# Altium schematic symbol library WaterNet23BotPCB.SCHLIB: 21 symbols
Pins are listed as number, name and electrical type; pins without a type are passive.

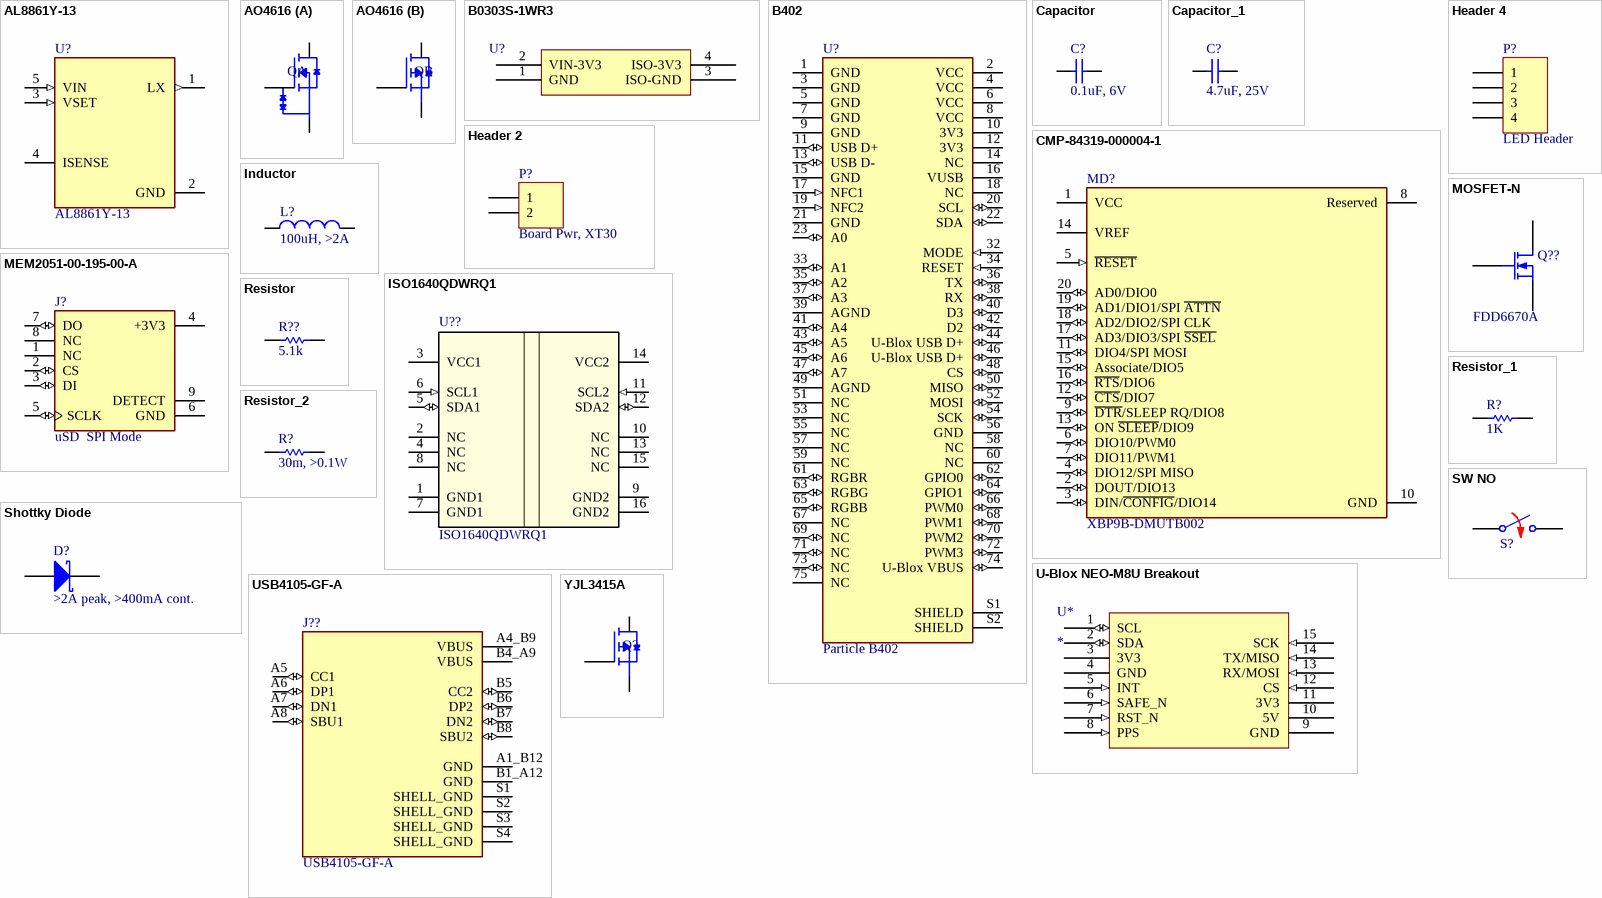
[diagram p0: symbols AL8861Y-13 to YJL3415A]

## AL8861Y-13
designator U?
LED Driver IC 1 Output DC DC Regulator Step-Down _Buck_ Analog, PWM Dimming 1.5A SOT-89-5; MF: Diodes Inc.; Availability: Unavailable; SnapEDA_Link: https://www.snapeda.com/parts/AL8861Y-13/Diodes%20Inc./view-part/1241445/?ref=snap; MP: AL8861Y-13; Price: None; Package: SOT-89 Diodes Inc.; Value: *
footprint CONV_AL8861Y-13
pins: 1 LX (out), 2 GND (power), 3 VSET (in), 4 ISENSE, 5 VIN (in)

## AO4616
designator Q  (value not drawn)
N+P-Channel MOSFET
part A pins: 1 S2, 2 G2, 7 D2, 8 D2
part B pins: 3 S1, 4 G1, 5 D1, 6 D1

## B0303S-1WR3
designator U?
3V3 Isolator
pins: 1 GND (power), 2 VIN-3V3 (power), 3 ISO-GND (power), 4 ISO-3V3 (power)

## B402
designator U?  Supplier Part Number 1: Particle B402  (hidden comment: B402)
Connector, Backplane, Housing, Receptacle, 67 Position, 2row; MP: 2199230-4; Package: None; Availability: Unavailable; Value: *; Price: None; Supplier 1: Digi-Key
footprint Particle B402 (Footprint not found)
pins: 1 GND (power), 2 VCC (power), 3 GND (power), 4 VCC (power), 5 GND (power), 6 VCC (power), 7 GND (power), 8 VCC (power), 9 GND (power), 10 3V3 (power), 11 USB D+ (io) "Data+ pin of the NRF52840 USB port.", 12 3V3 (power), 13 USB D- (io) "Data- pin of the NRF52840 USB port.", 14 NC (hiz), 15 GND (power), 16 VUSB (power) "System power in, USB detect pin for nRF52840. 5V on this pin enables the USB interface.", 17 NFC1 (in) "NFC antenna connection.", 18 NC (hiz), 19 NFC2 (in) "NFC antenna connection.", 20 SCL (io) "I2C SCL, and digital only GPIO.", 21 GND (power), 22 SDA (io) "I2C SDA, and digital only GPIO.", 23 A0 (io) "Analog input ADC0, and digital GPIO.", 32 MODE (in) "Connected to the MODE button input, and digital only GPIO.", 33 A1 (io) "Analog input ADC1, and digital GPIO.", 34 RESET (in) "Active-low reset input.", 35 A2 (io) "Analog input ADC2, and digital GPIO.", 36 TX (io) "Primarily used as UART TX, but can also be used as a digital GPIO.", 37 A3 (io) "Analog input ADC3, and digital GPIO.", 38 RX (io) "Primarily used as UART RX, but can also be used as a digital GPIO.", 39 AGND (power) "System analog ground.", 40 D3 (io) "UART flow control CTS, SCL1 (Wire1), SPI1 MOSI, digital only GPIO.", 41 A4 (io) "Analog input ADC4, and digital GPIO.", 42 D2 (io) "UART flow control RTS, SDA1 (Wire1), SPI1 SCK, digital only GPIO.", 43 A5 (io) "Analog input ADC5, and digital GPIO.", 44 U-Blox USB D+ (io) "Data+ pin of the cellular modem USB port.", 45 A6 (io) "Analog input ADC6, and digital GPIO.", 46 U-Blox USB D+ (io) "Data- pin of the cellular modem USB port.", 47 A7 (io) "Analog input ADC7, and digital GPIO.", 48 CS (io) "SPI interface CS, and digital only GPIO.", 49 AGND (power) "System analog ground.", 50 MISO (io) "SPI interface MISO, and digital only GPIO.", 51 NC (hiz), 52 MOSI (io) "SPI interface MOSI, and digital only GPIO.", 53 NC (hiz), 54 SCK (io) "SPI interface SCK, and digital only GPIO.", 55 NC (hiz), 56 GND (power), 57 NC (hiz), 58 NC (hiz), 59 NC (hiz), 60 NC (hiz), 61 RGBR (io) "Red pin of the RGB LED.", 62 GPIO0 (io) "GPIO0, digital only.", 63 RGBG (io) "Green pin of the RGB LED.", 64 GPIO1 (io) "GPIO1, digital only.", 65 RGBB (io) "Blue pin of the RGB LED.", 66 PWM0 (io) "SPI1 MISO, Digital only GPIO, and PWM0.", 67 NC (power) "Leave unconnected, 1.8V/3V SIM Supply Output from cellular modem.", 68 PWM1 (io) "Digital only GPIO, and PWM1.", 69 NC (io) "Leave unconnected, 1.8V/3V SIM Reset Output from cellular modem.", 70 PWM2 (io) "Digital only GPIO, and PWM2.", 71 NC (io) "Leave unconnected, 1.8V/3V SIM Clock Output from cellular modem.", 72 PWM3 (io) "Digital only GPIO, and PWM3.", 73 NC (io) "Leave unconnected, 1.8V/3V SIM Data I/O of cellular modem with internal 4.7 k pull-up.", 74 U-Blox VBUS (io) "USB detect pin for cellular modem. 5V on this pin enables the u-blox USB interface.", 75 NC (hiz), S1 SHIELD, S2 SHIELD

## Capacitor
designator C?  value 0.1uF, 6V  (hidden comment: Capacitor)
SimulationGenericComponent: True
simulation model C_Capacitor_Default (CAP)
pins: 1, 2

## Capacitor_1
designator C?, comment value 4.7uF, 25V  (hidden comment: Capacitor)
SimulationGenericComponent: True
simulation model C_Capacitor_Default (CAP)
pins: 1, 2

## CMP-84319-000004-1
designator MD?, comment XBP9B-DMUTB002
RX TXRX MOD ISM < 1GHZ U.FL TH; Manufacturer: Digi International; Max Supply Voltage: 3.6V; Current - Transmitting: 215mA; Sensitivity: -101dBm; Min Frequency: 902MHz; Memory Size: 2KB; Max Frequency: 928MHz; Min Supply Voltage: 2.4V; Current - Receiving: 29mA; Interface: SPI; Data Rate: 200Kbps; Frequency: 900MHz; Output Power (dBm): 24dBm; Number of Pins: 20; Series: XBee-Pro™; Max Operating Temperature: 85°C; Radiation Hardening: No; Min Operating Temperature: -40°C; Package Quantity: 1; RAM Size: 2KB; Packaging: Bulk; Case/Package: Module; Manufacturer Part Number: XBP9B-DMUTB002
footprint FP-XBP9B-DMUTB002-MFG
pins: 1 VCC (power), 2 DOUT/DIO13 (io), 3 DIN/~{CONFIG}/DIO14 (io), 4 DIO12/SPI MISO (io), 5 ~{RESET} (in), 6 DIO10/PWM0 (io), 7 DIO11/PWM1 (io), 8 Reserved, 9 ~{DTR}/SLEEP RQ/DIO8 (io), 10 GND (power), 11 DIO4/SPI MOSI (io), 12 ~{CTS}/DIO7 (io), 13 ON ~{SLEEP}/DIO9 (io), 14 VREF, 15 Associate/DIO5 (io), 16 ~{RTS}/DIO6 (io), 17 AD3/DIO3/SPI ~{SSEL} (io), 18 AD2/DIO2/SPI CLK (io), 19 AD1/DIO1/SPI ~{ATTN} (io), 20 AD0/DIO0 (io)

## Header 2
designator P?, comment Board Pwr, XT30
Header, 2-Pin; LatestRevisionDate: 17-Jul-2002; LatestRevisionNote: Re-released for DXP Platform.; Publisher: Altium Limited
footprint HDR1X2 (Connector; Header; 2 Position)
signal-integrity model Connector
pins: 1 (power), 2 (power)

## Header 4
designator P?, comment LED Header
Header, 4-Pin; LatestRevisionDate: 17-Jul-2002; LatestRevisionNote: Re-released for DXP Platform.; Publisher: Altium Limited
footprint HDR1X4 (Connector; Header; 4 Position)
signal-integrity model Connector
pins: 1, 2, 3, 4

## Inductor
designator L?  value 100uH, >2A  (hidden comment: Inductor)
SimulationGenericComponent: True
simulation model L_Inductor_Default (INDUCTOR)
pins: 1, 2

## ISO1640QDWRQ1
designator U??
No Description Available; Mfr_Name: Texas Instruments; Type: DEV; RefDes: RefDes; Copyright: Copyright (C) 2022 Ultra Librarian. All rights reserved.; Manufacturer_Part_Number: ISO1640QDWRQ1; Digi-Key_Part_Number_1: 296-ISO1640QDWRQ1TR-ND; Digi-Key_Part_Number_2: 296-ISO1640QDWRQ1CT-ND; Digi-Key_Part_Number_3: 296-ISO1640QDWRQ1DKR-ND
footprint DW0016A-IPC_A
pins: 1 GND1 (power), 2 NC, 3 VCC1 (power), 4 NC, 5 SDA1 (io), 6 SCL1 (in), 7 GND1 (power), 8 NC, 9 GND2 (power), 10 NC, 11 SCL2 (in), 12 SDA2 (io), 13 NC, 14 VCC2 (power), 15 NC, 16 GND2 (power)

## MEM2051-00-195-00-A
designator J?, comment uSD  SPI Mode
9 (8 + 1) Position Card Connector microSDâ„¢ Surface Mount, Right Angle Gold, 1.95mm profile, Normally open switch, Push push, Top mount; MF: Global Connector Technology; MP: MEM2051-00-195-00-A; Purchase-URL: https://pricing.snapeda.com/search/part/MEM2051-00-195-00-A/?ref=eda; Price: None; SnapEDA_Link: https://www.snapeda.com/parts/MEM2051-00-195-00-A/Global%20Connector%20Technology/view-part/779220/?ref=snap; Check_prices: https://www.snapeda.com/parts/MEM2051-00-195-00-A/Global%20Connector%20Technology/view-part/779220/?ref=eda; Package: None; Value: *; Availability: Warning
footprint GCT_MEM2051-00-195-00-A
pins: 1 NC (hiz), 2 CS (io), 3 DI (io), 4 +3V3 (power), 5 SCLK (io), 6 GND (power), 7 DO (io), 8 NC (hiz), 9 DETECT

## MOSFET-N
designator Q??, comment FDD6670A
N-Channel MOSFET; Published: 8-Jun-2000; LatestRevisionDate: 17-Jul-2002; LatestRevisionNote: Re-released for DXP Platform.; PackageVersion: 1995/1996; PackageReference: E3; Publisher: Altium Limited; PackageDescription: TO, Flat Index; 3 In-Line, Axial Leads; Body Dia. 4.6mm; Lead Dia. 0.5 mm (max)
footprint E3 (TO, Flat Index; 3 In-Line, Axial Leads; Body Dia. 4.6mm; Lead Dia. 0.5 mm (max))
simulation model NMOS (MOSFET-N)
pins: 1 D, 2 G, 3 S

## Resistor
designator R??  value 5.1k  (hidden comment: Resistor)
TC1: 0; SimulationGenericComponent: True; TC2: 0
simulation model R_Resistor_Default (Model Description)
pins: 1, 2

## Resistor_1
designator R?, comment value 1K  (hidden comment: Resistor)
TC1: 0; SimulationGenericComponent: True; TC2: 0
simulation model R_Resistor_Default (Model Description)
pins: 1, 2

## Resistor_2
designator R?, comment value 30m, >0.1W  (hidden comment: Resistor)
TC1: 0; SimulationGenericComponent: True; TC2: 0
simulation model R_Resistor_Default (Model Description)
pins: 1, 2

## Shottky Diode
designator D?, comment >2A peak, >400mA cont.
Shottky Diode; AF: 1; BV: 0; BV_MAX: 1e99; EG: 1.11; FC: 0.5; IBV: 0.001; IS: 1e-14; MJSW: 0.33; NTUN: 30; TNOM: 27; XTI: 3; SimulationGenericComponent: True; CJO: 0; CJP: 0; CTA: 0; CTP: 0; FCS: 0.5; FV_MAX: 1e99; IKF: 0; IKR: 0; ISR: 1e-14; JSW: 0; JTUN: 0; JTUNSW: 0; KEG: 1; KF: 0; LEVEL: 1; N: 1; NBV: 1; NR: 1; NS: 1; PHP: 1; RS: 0; TCV: 0; TLEV: 0; TLEVC: 0; TM1: 0; TM2: 0; TPB: 0; TPHP: 0; TRS: 0; TRS2: 0; TT: 0; TTT1: 0; TTT2: 0; VJ: 1; XTITUN: 3
simulation model diode (Diodes)
pins: 1 A, 2 K

## SW NO
designator S?, comment Switch Normally Opened  (value not drawn)
closed: 0; Rclosed: 1m; Ropen: 1Meg; SimulationGenericComponent: True
simulation model SPST_SWITCH
pins: 1, 2

## U-Blox NEO-M8U Breakout
designator U*
GPS Board
footprint U-Blox NEO-M8U
pins: 1 SCL (io), 2 SDA (io), 3 3V3 (power), 4 GND (power), 5 INT (in), 6 SAFE_N (in), 7 RST_N (in), 8 PPS (in), 9 GND (power), 10 5V (power), 11 3V3 (power), 12 CS (in), 13 RX/MOSI (in), 14 TX/MISO (in), 15 SCK (in)

## USB4105-GF-A
designator J??
USB-C (USB TYPE-C) USB 2.0 Receptacle Connector 24 (16+8 Dummy) Position Surface Mount, Right Angle; Through Hole; Value: *; Availability: Unavailable; Price: None; Package: None; MP: USB4105-GF-A
footprint GCT_USB4105-GF-A
pins: A1_B12 GND (power), A4_B9 VBUS (power), A5 CC1 (io), A6 DP1 (io), A7 DN1 (io), A8 SBU1 (io), B1_A12 GND (power), B4_A9 VBUS (power), B5 CC2 (io), B6 DP2 (io), B7 DN2 (io), B8 SBU2 (io), S1 SHELL_GND (power), S2 SHELL_GND (power), S3 SHELL_GND (power), S4 SHELL_GND (power)

## YJL3415A
designator Q?  (value not drawn)
P-Channel MOSFET
pins: 1 G, 2 S, 3 D